# EAGLE library part 82200 (library micro-siemens)
MICROPROCESSOR/PERIPHERAL DEVICE
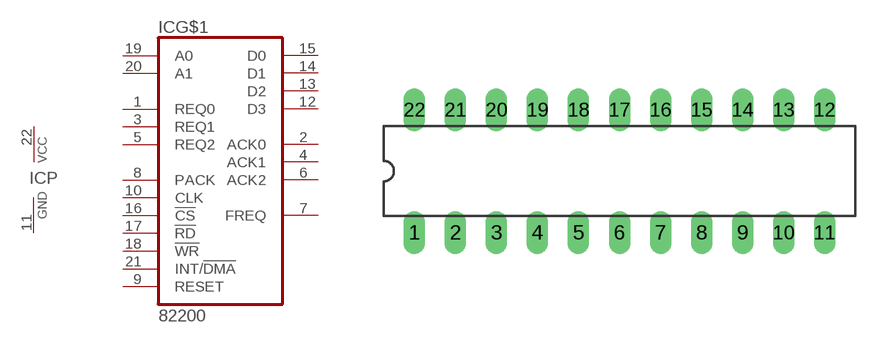
[diagram p34: symbol with the pads of DIL22-3; footprint DIL22-3]

Designator prefix IC; gates G$1=82200 P=VCCGND

## 82200 (OC_FARNELL: unknown; OC_NEWARK: unknown)  [DIL22-3]
1  G$1:REQ0  in
2  G$1:ACK0  out
3  G$1:REQ1  in
4  G$1:ACK1  out
5  G$1:REQ2  in
6  G$1:ACK2  out
7  G$1:FREQ  out
8  G$1:PACK  in
9  G$1:RESET  in
10  G$1:CLK  in
11  P:GND  pwr
12  G$1:D3
13  G$1:D2
14  G$1:D1
15  G$1:D0
16  G$1:!CS  in
17  G$1:!RD  in
18  G$1:!WR  in
19  G$1:A0  in
20  G$1:A1  in
21  G$1:INT/!DMA  in
22  P:VCC  pwr

## Footprint DIL22-3 (pad centres in mm)
Dual In Line Package 0.3 inch
drill 0.813 long: 1 -12.7,-3.81; 2 -10.16,-3.81; 3 -7.62,-3.81; 4 -5.08,-3.81; 5 -2.54,-3.81; 6 0,-3.81; 7 2.54,-3.81; 8 5.08,-3.81; 9 7.62,-3.81; 10 10.16,-3.81; 11 12.7,-3.81; 12 12.7,3.81; 13 10.16,3.81; 14 7.62,3.81; 15 5.08,3.81; 16 2.54,3.81; 17 0,3.81; 18 -2.54,3.81; 19 -5.08,3.81; 20 -7.62,3.81; 21 -10.16,3.81; 22 -12.7,3.81